# EAGLE library part POWERBOOST500C (library jos-ph)
Adafruit PowerBoost 500c https://www.adafruit.com/products/1944 *UNPROVEN*
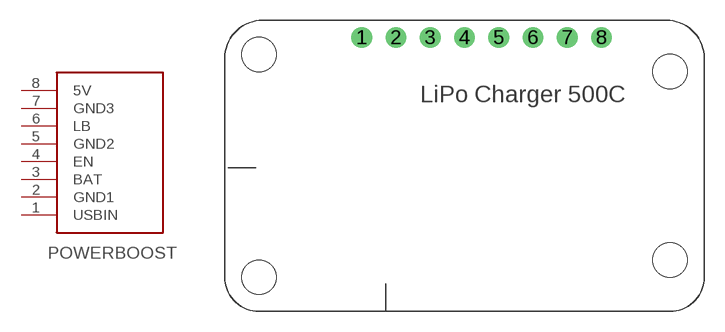
[diagram p3: symbol with the pads of POWERBOOST500; footprint POWERBOOST500]

Designator prefix -

## POWERBOOST500C  [POWERBOOST500]
1  USBIN
2  GND1
3  BAT
4  EN
5  GND2
6  LB
7  GND3
8  5V

## Footprint POWERBOOST500 (pad centres in mm)
drill 1.016: 1 10.16,20.32; 2 12.7,20.32; 3 15.24,20.32; 4 17.78,20.32; 5 20.32,20.32; 6 22.86,20.32; 7 25.4,20.32; 8 27.94,20.32
hole 2.54 at 2.54,19.05
hole 2.54 at 2.54,2.54
hole 2.54 at 33.02,17.78
hole 2.54 at 33.02,3.81